# EAGLE library part OMAP3530 (library GTA04b7)
ARM Coretx Applications Processor Texas Instruments OMAP3530/25 600-MHz ARM Cortex-A8 Core
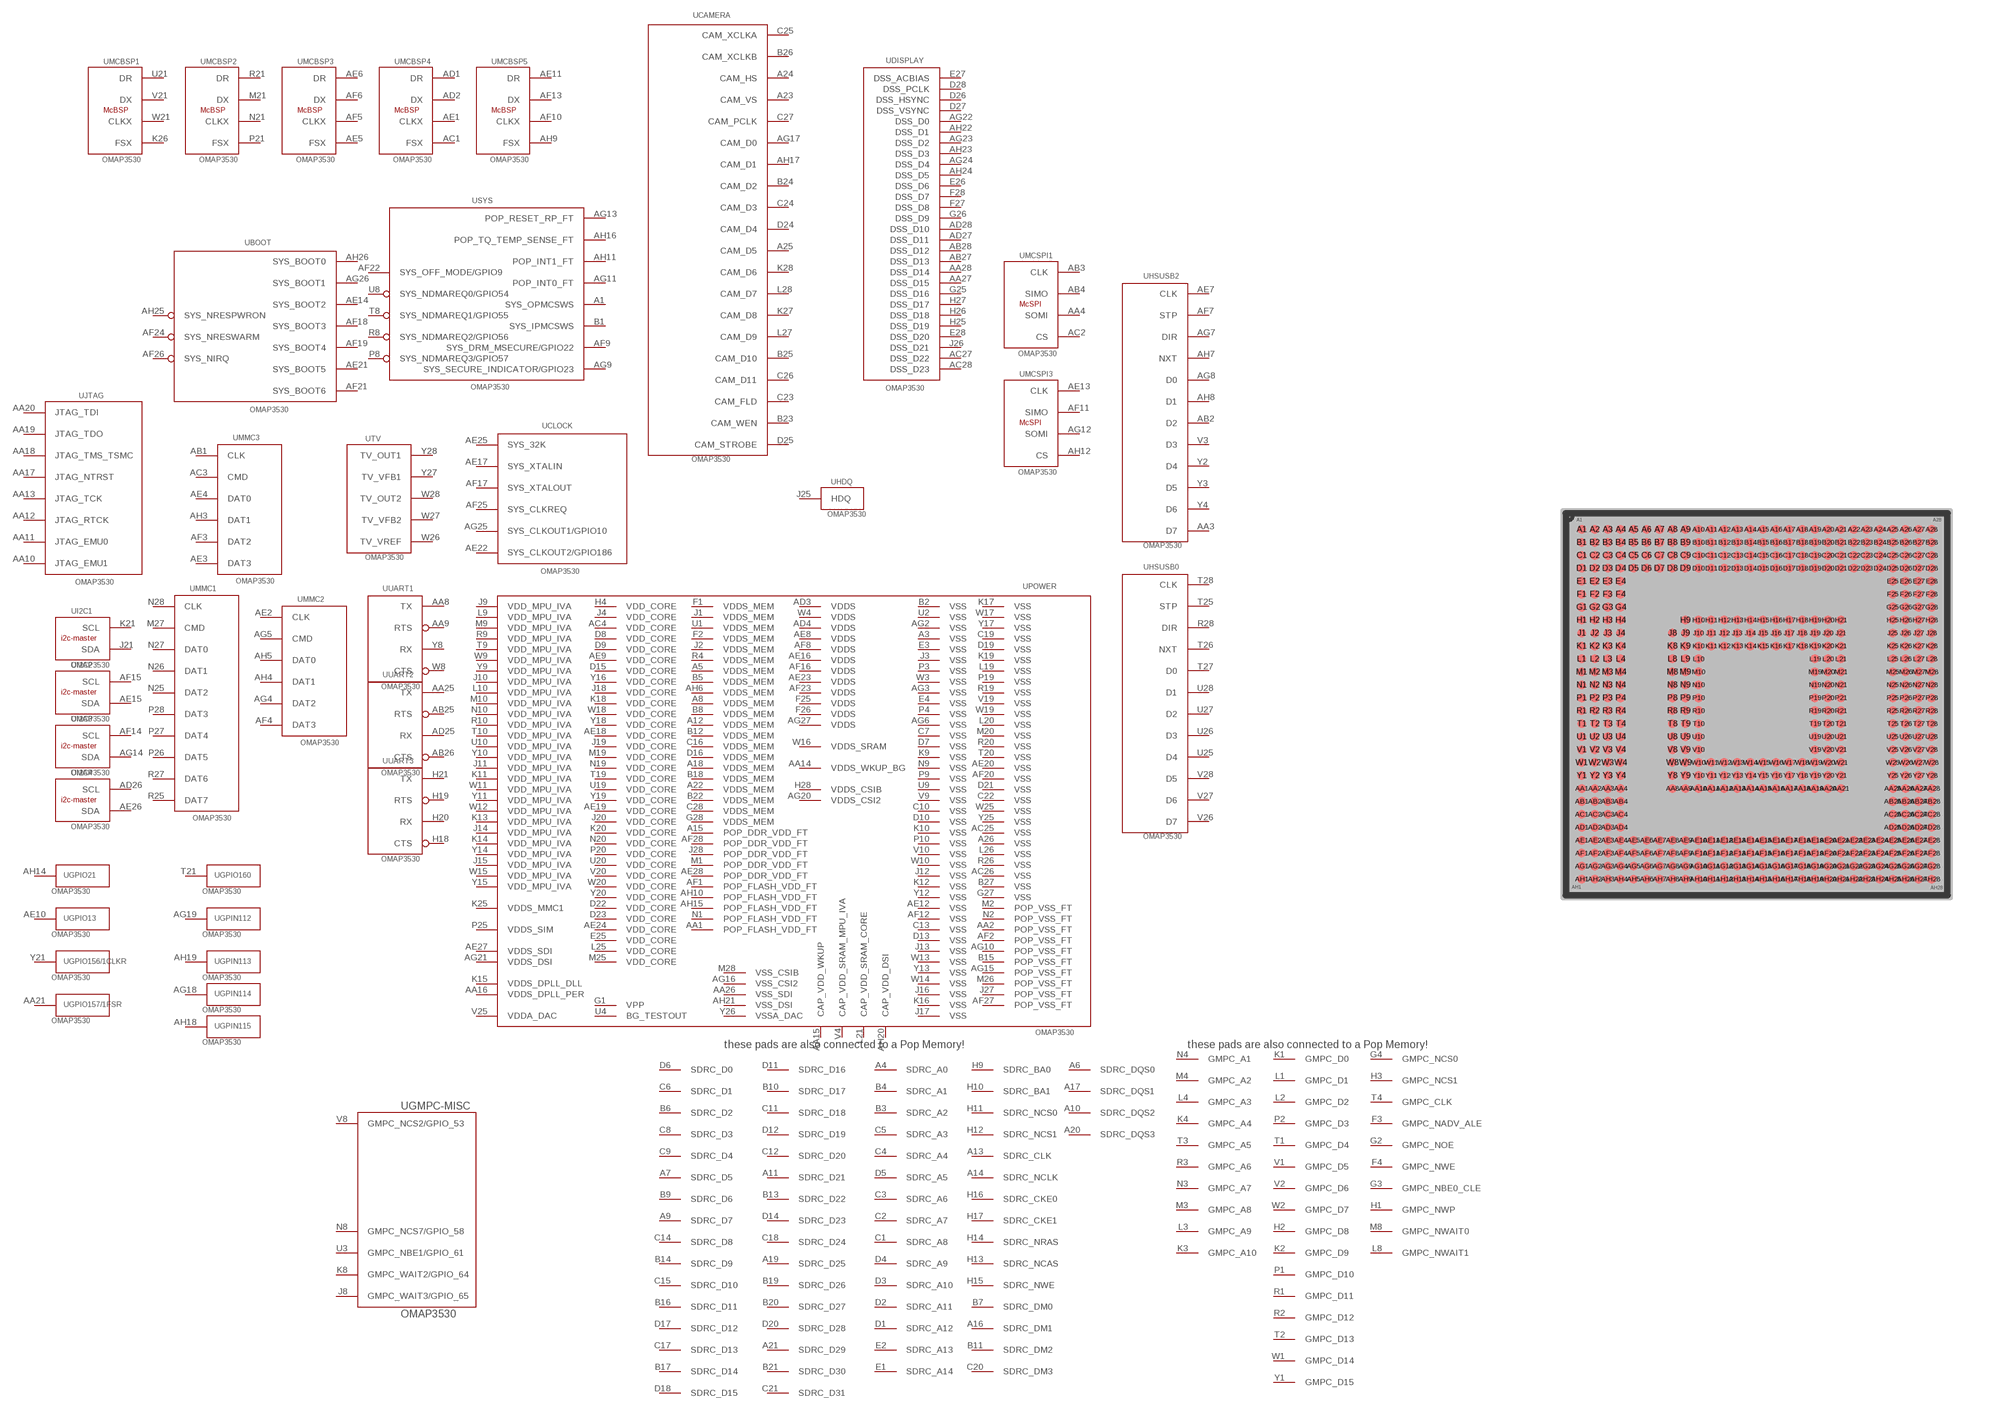
[diagram p32: symbol with the pads of PBGA784-N515-0.4; footprint PBGA784-N515-0.4]

Designator prefix -; gates BOOT=OMAP-BOOT CAMERA=OMAP-CAM CLOCK=OMAP-CLOCK DISPLAY=OMAP-DSS GMPC=OMAP-GPMC-POP GMPC-MISC=OMAP-GPMC GPIN112=IF-GPIN GPIN113=IF-GPIN GPIN114=IF-GPIN GPIN115=IF-GPIN GPIO13=IF-GPIO GPIO21=IF-GPIO GPIO156/1CLKR=IF-GPIO GPIO157/1FSR=IF-GPIO GPIO160=IF-GPIO HDQ=IF-HDQ HSUSB0=IF-HSUSB HSUSB2=IF-HSUSB I2C1=IF-I2C-MASTER I2C2=IF-I2C-MASTER I2C3=IF-I2C-MASTER I2C4=IF-I2C-MASTER JTAG=OMAP-JTAG MCBSP1=IF-MCBSP MCBSP2=IF-MCBSP MCBSP3=IF-MCBSP MCBSP4=IF-MCBSP MCBSP5=IF-MCBSP MCSPI1=IF-SPI-MASTER MCSPI3=IF-SPI-MASTER MMC1=IF-MMC8 MMC2=IF-MMC4 MMC3=IF-MMC4 POWER=OMAP-POWER SDRC=OMAP-SDRC-POP SYS=OMAP-MISC TV=OMAP-TV UART1=OMAP-UART UART2=OMAP-UART UART3=OMAP-UART

## OMAP3530DCBB (MICRO-VIA-OFF: 1:B2,1:N2,1:U2,2:Y2,1:AA2,2:AB2,2:AC2,2:AD2,1:AG2,1:J3,1:P3,2:V3,1:W3,3:Y3,2:AA3,3:AB3,1:AC3,2:AD3,1:AE3,2:AF3,2:AF5,2:AF6,1:AG6,3:AF7,3:AG7,1:P8,2:W8,1:Y8,3:AA8,2:AF8,1:AG8,1:W9,2:AA9,3:AF9,1:AA10,3:AF10,1:AG10,1:AA11,1:AA12,1:AF12,1:C13,2:AF13,2:AG13,1:AA14,3:AF14,2:AG14,1:B15,2:AA15,2:AF15,1:AG15,1:C16,1:AA16,1:AF16,1:B17,2:AA17,3:AG17,4:AA18,1:AF18,2:AG18,1:C19,1:H19,2:AA19,2:AF19,3:AG19,1:H20,1:AA20,2:AF20,1:AG20,2:H21,2:J21,1:L21,3:N21,2:P21,1:R21,3:T21,2:U21,1:V21,1:W21,2:Y21,2:AF21,2:AG21,1:C22,3:AF22,1:AG22,1:B23,2:C23,1:AF23,2:AG23,2:B24,2:C24,2:AF24,2:AG24,1:B25,3:C25,2:B26,2:C26,3:D26,2:E26,3:H26,1:J26,1:K26,1:L26,2:N26,2:R26,4:T26,7:U26,4:V26,2:W26,3:AB26,3:AD26,2:AE26,2:AF26,1:B27,1:C27,2:D27,1:G27,1:J27,1:K27,2:L27,1:M27,2:N27,3:T27,3:U27,3:V27,1:W27,1:Y27,2:AA27,2:AB27,3:AC27,2:AD27,2:AE27,1:AF27,1:AG27,1:K10,1:A18,1:K13,1:Y16,1:Y18,1:U10,1:AE25,1:K17,1:K19,2:AE17,1:D28,3:T28,1:R28,2:U28,2:U25,3:V28,1:Y4,1:AD28,1:AA25,3:AB25,3:AD25,2:AE10,3:AE4,2:AE5,2:D25,1:D24,2:AF1,1:W16,2:AA4,1:AC1,1:AH24,2:L28,3:T25,1:AH9,3:AE6,1:AD1,1:H25,1:A23,1:AH17,1:M21,1:A24,1:V25)  [PBGA784-N515-0.4]
A1  SYS:SYS_OPMCSWS  nc
A3  POWER:VSS  pwr
A4  SDRC:SDRC_A0  out
A5  POWER:VDDS_MEM  pwr
A6  SDRC:SDRC_DQS0  out
A7  SDRC:SDRC_D5
A8  POWER:VDDS_MEM  pwr
A9  SDRC:SDRC_D7
A10  SDRC:SDRC_DQS2  out
A11  SDRC:SDRC_D21
A12  POWER:VDDS_MEM  pwr
A13  SDRC:SDRC_CLK
A14  SDRC:SDRC_NCLK  out
A15  POWER:POP_DDR_VDD_FT  pwr
A16  SDRC:SDRC_DM1  out
A17  SDRC:SDRC_DQS1  out
A18  POWER:VDDS_MEM  pwr
A19  SDRC:SDRC_D25
A20  SDRC:SDRC_DQS3  out
A21  SDRC:SDRC_D29
A22  POWER:VDDS_MEM  pwr
A23  CAMERA:CAM_VS
A24  CAMERA:CAM_HS
A25  CAMERA:CAM_D5  in
A26  POWER:VSS  pwr
AA1  POWER:POP_FLASH_VDD_FT  pwr
AA2  POWER:POP_VSS_FT  pwr
AA3  HSUSB2:D7  out
AA4  MCSPI1:SOMI
AA8  UART1:TX  out
AA9  UART1:RTS  out
AA10  JTAG:JTAG_EMU1
AA11  JTAG:JTAG_EMU0
AA12  JTAG:JTAG_RTCK  out
AA13  JTAG:JTAG_TCK  in
AA14  POWER:VDDS_WKUP_BG  pwr
AA15  POWER:CAP_VDD_WKUP  pwr
AA16  POWER:VDDS_DPLL_PER  pwr
AA17  JTAG:JTAG_NTRST  in
AA18  JTAG:JTAG_TMS_TSMC
AA19  JTAG:JTAG_TDO  out
AA20  JTAG:JTAG_TDI  in
AA21  GPIO157/1FSR:GPIO
AA25  UART2:TX  out
AA26  POWER:VSS_SDI  pwr
AA27  DISPLAY:DSS_D15  out
AA28  DISPLAY:DSS_D14  out
AB1  MMC3:CLK  out
AB2  HSUSB2:D2  out
AB3  MCSPI1:CLK
AB4  MCSPI1:SIMO
AB25  UART2:RTS  out
AB26  UART2:CTS  in
AB27  DISPLAY:DSS_D13  out
AB28  DISPLAY:DSS_D12  out
AC1  MCBSP4:FSX
AC2  MCSPI1:CS
AC3  MMC3:CMD  out
AC4  POWER:VDD_CORE  pwr
AC25  POWER:VSS  pwr
AC26  POWER:VSS  pwr
AC27  DISPLAY:DSS_D22  out
AC28  DISPLAY:DSS_D23  out
AD1  MCBSP4:DR  in
AD2  MCBSP4:DX
AD3  POWER:VDDS  pwr
AD4  POWER:VDDS  pwr
AD25  UART2:RX  in
AD26  I2C4:SCL
AD27  DISPLAY:DSS_D11  out
AD28  DISPLAY:DSS_D10  out
AE1  MCBSP4:CLKX
AE2  MMC2:CLK  out
AE3  MMC3:DAT3
AE4  MMC3:DAT0
AE5  MCBSP3:FSX
AE6  MCBSP3:DR  in
AE7  HSUSB2:CLK  out
AE8  POWER:VDDS  pwr
AE9  POWER:VDD_CORE  pwr
AE10  GPIO13:GPIO
AE11  MCBSP5:DR  in
AE12  POWER:VSS  pwr
AE13  MCSPI3:CLK
AE14  BOOT:SYS_BOOT2  in
AE15  I2C2:SDA
AE16  POWER:VDDS  pwr
AE17  CLOCK:SYS_XTALIN  in
AE18  POWER:VDD_CORE  pwr
AE19  POWER:VDD_CORE  pwr
AE20  POWER:VSS  pwr
AE21  BOOT:SYS_BOOT5  in
AE22  CLOCK:SYS_CLKOUT2/GPIO186  out
AE23  POWER:VDDS  pwr
AE24  POWER:VDD_CORE  pwr
AE25  CLOCK:SYS_32K  in
AE26  I2C4:SDA
AE27  POWER:VDDS_SDI  pwr
AE28  POWER:POP_DDR_VDD_FT  pwr
AF1  POWER:POP_FLASH_VDD_FT  pwr
AF2  POWER:POP_VSS_FT  pwr
AF3  MMC3:DAT2
AF4  MMC2:DAT3
AF5  MCBSP3:CLKX
AF6  MCBSP3:DX
AF7  HSUSB2:STP  out
AF8  POWER:VDDS  pwr
AF9  SYS:SYS_DRM_MSECURE/GPIO22  out
AF10  MCBSP5:CLKX
AF11  MCSPI3:SIMO
AF12  POWER:VSS  pwr
AF13  MCBSP5:DX
AF14  I2C3:SCL
AF15  I2C2:SCL
AF16  POWER:VDDS  pwr
AF17  CLOCK:SYS_XTALOUT  out
AF18  BOOT:SYS_BOOT3  in
AF19  BOOT:SYS_BOOT4  in
AF20  POWER:VSS  pwr
AF21  BOOT:SYS_BOOT6  in
AF22  SYS:SYS_OFF_MODE/GPIO9  out
AF23  POWER:VDDS  pwr
AF24  BOOT:SYS_NRESWARM
AF25  CLOCK:SYS_CLKREQ
AF26  BOOT:SYS_NIRQ  in
AF27  POWER:POP_VSS_FT  pwr
AF28  POWER:POP_DDR_VDD_FT  pwr
AG2  POWER:VSS  pwr
AG3  POWER:VSS  pwr
AG4  MMC2:DAT2
AG5  MMC2:CMD  out
AG6  POWER:VSS  pwr
AG7  HSUSB2:DIR  in
AG8  HSUSB2:D0  out
AG9  SYS:SYS_SECURE_INDICATOR/GPIO23  out
AG10  POWER:POP_VSS_FT  pwr
AG11  SYS:POP_INT0_FT  out
AG12  MCSPI3:SOMI
AG13  SYS:POP_RESET_RP_FT
AG14  I2C3:SDA
AG15  POWER:POP_VSS_FT  pwr
AG16  POWER:VSS_CSI2  pwr
AG17  CAMERA:CAM_D0  in
AG18  GPIN114:GPIN  in
AG19  GPIN112:GPIN  in
AG20  POWER:VDDS_CSI2  pwr
AG21  POWER:VDDS_DSI  pwr
AG22  DISPLAY:DSS_D0  out
AG23  DISPLAY:DSS_D2  out
AG24  DISPLAY:DSS_D4  out
AG25  CLOCK:SYS_CLKOUT1/GPIO10  out
AG26  BOOT:SYS_BOOT1  in
AG27  POWER:VDDS  pwr
AH3  MMC3:DAT1
AH4  MMC2:DAT1
AH5  MMC2:DAT0
AH6  POWER:VDDS_MEM  pwr
AH7  HSUSB2:NXT  in
AH8  HSUSB2:D1  out
AH9  MCBSP5:FSX
AH10  POWER:POP_FLASH_VDD_FT  pwr
AH11  SYS:POP_INT1_FT  out
AH12  MCSPI3:CS
AH14  GPIO21:GPIO
AH15  POWER:POP_FLASH_VDD_FT  pwr
AH16  SYS:POP_TQ_TEMP_SENSE_FT
AH17  CAMERA:CAM_D1  in
AH18  GPIN115:GPIN  in
AH19  GPIN113:GPIN  in
AH20  POWER:CAP_VDD_DSI  pwr
AH21  POWER:VSS_DSI  pwr
AH22  DISPLAY:DSS_D1  out
AH23  DISPLAY:DSS_D3  out
AH24  DISPLAY:DSS_D5  out
AH25  BOOT:SYS_NRESPWRON  in
AH26  BOOT:SYS_BOOT0  in
B1  SYS:SYS_IPMCSWS  nc
B2  POWER:VSS  pwr
B3  SDRC:SDRC_A2  out
B4  SDRC:SDRC_A1  out
B5  POWER:VDDS_MEM  pwr
B6  SDRC:SDRC_D2
B7  SDRC:SDRC_DM0  out
B8  POWER:VDDS_MEM  pwr
B9  SDRC:SDRC_D6
B10  SDRC:SDRC_D17
B11  SDRC:SDRC_DM2  out
B12  POWER:VDDS_MEM  pwr
B13  SDRC:SDRC_D22
B14  SDRC:SDRC_D9
B15  POWER:POP_VSS_FT  pwr
B16  SDRC:SDRC_D11
B17  SDRC:SDRC_D14
B18  POWER:VDDS_MEM  pwr
B19  SDRC:SDRC_D26
B20  SDRC:SDRC_D27
B21  SDRC:SDRC_D30
B22  POWER:VDDS_MEM  pwr
B23  CAMERA:CAM_WEN
B24  CAMERA:CAM_D2  in
B25  CAMERA:CAM_D10  in
B26  CAMERA:CAM_XCLKB  out
B27  POWER:VSS  pwr
C1  SDRC:SDRC_A8  out
C2  SDRC:SDRC_A7  out
C3  SDRC:SDRC_A6  out
C4  SDRC:SDRC_A4  out
C5  SDRC:SDRC_A3  out
C6  SDRC:SDRC_D1
C7  POWER:VSS  pwr
C8  SDRC:SDRC_D3
C9  SDRC:SDRC_D4
C10  POWER:VSS  pwr
C11  SDRC:SDRC_D18
C12  SDRC:SDRC_D20
C13  POWER:VSS  pwr
C14  SDRC:SDRC_D8
C15  SDRC:SDRC_D10
C16  POWER:VDDS_MEM  pwr
C17  SDRC:SDRC_D13
C18  SDRC:SDRC_D24
C19  POWER:VSS  pwr
C20  SDRC:SDRC_DM3  out
C21  SDRC:SDRC_D31
C22  POWER:VSS  pwr
C23  CAMERA:CAM_FLD
C24  CAMERA:CAM_D3  in
C25  CAMERA:CAM_XCLKA  out
C26  CAMERA:CAM_D11  in
C27  CAMERA:CAM_PCLK
C28  POWER:VDDS_MEM  pwr
D1  SDRC:SDRC_A12  out
D2  SDRC:SDRC_A11  out
D3  SDRC:SDRC_A10  out
D4  SDRC:SDRC_A9  out
D5  SDRC:SDRC_A5  out
D6  SDRC:SDRC_D0
D7  POWER:VSS  pwr
D8  POWER:VDD_CORE  pwr
D9  POWER:VDD_CORE  pwr
D10  POWER:VSS  pwr
D11  SDRC:SDRC_D16
D12  SDRC:SDRC_D19
D13  POWER:VSS  pwr
D14  SDRC:SDRC_D23
D15  POWER:VDD_CORE  pwr
D16  POWER:VDDS_MEM  pwr
D17  SDRC:SDRC_D12
D18  SDRC:SDRC_D15
D19  POWER:VSS  pwr
D20  SDRC:SDRC_D28
D21  POWER:VSS  pwr
D22  POWER:VDD_CORE  pwr
D23  POWER:VDD_CORE  pwr
D24  CAMERA:CAM_D4  in
D25  CAMERA:CAM_STROBE
D26  DISPLAY:DSS_HSYNC  out
D27  DISPLAY:DSS_VSYNC  out
D28  DISPLAY:DSS_PCLK  out
E1  SDRC:SDRC_A14  out
E2  SDRC:SDRC_A13  out
E3  POWER:VSS  pwr
E4  POWER:VSS  pwr
E25  POWER:VDD_CORE  pwr
E26  DISPLAY:DSS_D6  out
E27  DISPLAY:DSS_ACBIAS  out
E28  DISPLAY:DSS_D20  out
F1  POWER:VDDS_MEM  pwr
F2  POWER:VDDS_MEM  pwr
F3  GMPC:GMPC_NADV_ALE  out
F4  GMPC:GMPC_NWE  out
F25  POWER:VDDS  pwr
F26  POWER:VDDS  pwr
F27  DISPLAY:DSS_D8  out
F28  DISPLAY:DSS_D7  out
G1  POWER:VPP  out
G2  GMPC:GMPC_NOE  out
G3  GMPC:GMPC_NBE0_CLE  out
G4  GMPC:GMPC_NCS0  out
G25  DISPLAY:DSS_D16  out
G26  DISPLAY:DSS_D9  out
G27  POWER:VSS  pwr
G28  POWER:VDDS_MEM  pwr
H1  GMPC:GMPC_NWP  out
H2  GMPC:GMPC_D8
H3  GMPC:GMPC_NCS1  out
H4  POWER:VDD_CORE  pwr
H9  SDRC:SDRC_BA0  out
H10  SDRC:SDRC_BA1  out
H11  SDRC:SDRC_NCS0  out
H12  SDRC:SDRC_NCS1  out
H13  SDRC:SDRC_NCAS  out
H14  SDRC:SDRC_NRAS  out
H15  SDRC:SDRC_NWE  out
H16  SDRC:SDRC_CKE0  out
H17  SDRC:SDRC_CKE1  out
H18  UART3:CTS  in
H19  UART3:RTS  out
H20  UART3:RX  in
H21  UART3:TX  out
H25  DISPLAY:DSS_D19  out
H26  DISPLAY:DSS_D18  out
H27  DISPLAY:DSS_D17  out
H28  POWER:VDDS_CSIB  pwr
J1  POWER:VDDS_MEM  pwr
J2  POWER:VDDS_MEM  pwr
J3  POWER:VSS  pwr
J4  POWER:VDD_CORE  pwr
J8  GMPC-MISC:GMPC_WAIT3/GPIO_65
J9  POWER:VDD_MPU_IVA  pwr
J10  POWER:VDD_MPU_IVA  pwr
J11  POWER:VDD_MPU_IVA  pwr
J12  POWER:VSS  pwr
J13  POWER:VSS  pwr
J14  POWER:VDD_MPU_IVA  pwr
J15  POWER:VDD_MPU_IVA  pwr
J16  POWER:VSS  pwr
J17  POWER:VSS  pwr
J18  POWER:VDD_CORE  pwr
J19  POWER:VDD_CORE  pwr
J20  POWER:VDD_CORE  pwr
J21  I2C1:SDA
J25  HDQ:HDQ
J26  DISPLAY:DSS_D21  out
J27  POWER:POP_VSS_FT  pwr
J28  POWER:POP_DDR_VDD_FT  pwr
K1  GMPC:GMPC_D0
K2  GMPC:GMPC_D9
K3  GMPC:GMPC_A10
K4  GMPC:GMPC_A4
K8  GMPC-MISC:GMPC_WAIT2/GPIO_64
K9  POWER:VSS  pwr
K10  POWER:VSS  pwr
K11  POWER:VDD_MPU_IVA  pwr
K12  POWER:VSS  pwr
K13  POWER:VDD_MPU_IVA  pwr
K14  POWER:VDD_MPU_IVA  pwr
K15  POWER:VDDS_DPLL_DLL  pwr
K16  POWER:VSS  pwr
K17  POWER:VSS  pwr
K18  POWER:VDD_CORE  pwr
K19  POWER:VSS  pwr
K20  POWER:VDD_CORE  pwr
K21  I2C1:SCL
K25  POWER:VDDS_MMC1  pwr
K26  MCBSP1:FSX
K27  CAMERA:CAM_D8  in
K28  CAMERA:CAM_D6  in
L1  GMPC:GMPC_D1
L2  GMPC:GMPC_D2
L3  GMPC:GMPC_A9
L4  GMPC:GMPC_A3
L8  GMPC:GMPC_NWAIT1  in
L9  POWER:VDD_MPU_IVA  pwr
L10  POWER:VDD_MPU_IVA  pwr
L19  POWER:VSS  pwr
L20  POWER:VSS  pwr
L21  POWER:CAP_VDD_SRAM_CORE  pwr
L25  POWER:VDD_CORE  pwr
L26  POWER:VSS  pwr
L27  CAMERA:CAM_D9  in
L28  CAMERA:CAM_D7  in
M1  POWER:POP_DDR_VDD_FT  pwr
M2  POWER:POP_VSS_FT  pwr
M3  GMPC:GMPC_A8
M4  GMPC:GMPC_A2
M8  GMPC:GMPC_NWAIT0  in
M9  POWER:VDD_MPU_IVA  pwr
M10  POWER:VDD_MPU_IVA  pwr
M19  POWER:VDD_CORE  pwr
M20  POWER:VSS  pwr
M21  MCBSP2:DX
M25  POWER:VDD_CORE  pwr
M26  POWER:POP_VSS_FT  pwr
M27  MMC1:CMD  out
M28  POWER:VSS_CSIB  pwr
N1  POWER:POP_FLASH_VDD_FT  pwr
N2  POWER:POP_VSS_FT  pwr
N3  GMPC:GMPC_A7
N4  GMPC:GMPC_A1
N8  GMPC-MISC:GMPC_NCS7/GPIO_58
N9  POWER:VSS  pwr
N10  POWER:VDD_MPU_IVA  pwr
N19  POWER:VDD_CORE  pwr
N20  POWER:VDD_CORE  pwr
N21  MCBSP2:CLKX
N25  MMC1:DAT2
N26  MMC1:DAT1
N27  MMC1:DAT0
N28  MMC1:CLK  out
P1  GMPC:GMPC_D10
P2  GMPC:GMPC_D3
P3  POWER:VSS  pwr
P4  POWER:VSS  pwr
P8  SYS:SYS_NDMAREQ3/GPIO57
P9  POWER:VSS  pwr
P10  POWER:VSS  pwr
P19  POWER:VSS  pwr
P20  POWER:VDD_CORE  pwr
P21  MCBSP2:FSX
P25  POWER:VDDS_SIM  pwr
P26  MMC1:DAT5
P27  MMC1:DAT4
P28  MMC1:DAT3
R1  GMPC:GMPC_D11
R2  GMPC:GMPC_D12
R3  GMPC:GMPC_A6
R4  POWER:VDDS_MEM  pwr
R8  SYS:SYS_NDMAREQ2/GPIO56
R9  POWER:VDD_MPU_IVA  pwr
R10  POWER:VDD_MPU_IVA  pwr
R19  POWER:VSS  pwr
R20  POWER:VSS  pwr
R21  MCBSP2:DR  in
R25  MMC1:DAT7
R26  POWER:VSS  pwr
R27  MMC1:DAT6
R28  HSUSB0:DIR  in
T1  GMPC:GMPC_D4
T2  GMPC:GMPC_D13
T3  GMPC:GMPC_A5
T4  GMPC:GMPC_CLK  out
T8  SYS:SYS_NDMAREQ1/GPIO55
T9  POWER:VDD_MPU_IVA  pwr
T10  POWER:VDD_MPU_IVA  pwr
T19  POWER:VDD_CORE  pwr
T20  POWER:VSS  pwr
T21  GPIO160:GPIO
T25  HSUSB0:STP  out
T26  HSUSB0:NXT  in
T27  HSUSB0:D0  out
T28  HSUSB0:CLK  out
U1  POWER:VDDS_MEM  pwr
U2  POWER:VSS  pwr
U3  GMPC-MISC:GMPC_NBE1/GPIO_61
U4  POWER:BG_TESTOUT  out
U8  SYS:SYS_NDMAREQ0/GPIO54
U9  POWER:VSS  pwr
U10  POWER:VDD_MPU_IVA  pwr
U19  POWER:VDD_CORE  pwr
U20  POWER:VDD_CORE  pwr
U21  MCBSP1:DR  in
U25  HSUSB0:D4  out
U26  HSUSB0:D3  out
U27  HSUSB0:D2  out
U28  HSUSB0:D1  out
V1  GMPC:GMPC_D5
V2  GMPC:GMPC_D6
V3  HSUSB2:D3  out
V4  POWER:CAP_VDD_SRAM_MPU_IVA  pwr
V8  GMPC-MISC:GMPC_NCS2/GPIO_53
V9  POWER:VSS  pwr
V10  POWER:VSS  pwr
V19  POWER:VSS  pwr
V20  POWER:VDD_CORE  pwr
V21  MCBSP1:DX
V25  POWER:VDDA_DAC  pwr
V26  HSUSB0:D7  out
V27  HSUSB0:D6  out
V28  HSUSB0:D5  out
W1  GMPC:GMPC_D14
W2  GMPC:GMPC_D7
W3  POWER:VSS  pwr
W4  POWER:VDDS  pwr
W8  UART1:CTS  in
W9  POWER:VDD_MPU_IVA  pwr
W10  POWER:VSS  pwr
W11  POWER:VDD_MPU_IVA  pwr
W12  POWER:VDD_MPU_IVA  pwr
W13  POWER:VSS  pwr
W14  POWER:VSS  pwr
W15  POWER:VDD_MPU_IVA  pwr
W16  POWER:VDDS_SRAM  pwr
W17  POWER:VSS  pwr
W18  POWER:VDD_CORE  pwr
W19  POWER:VSS  pwr
W20  POWER:VDD_CORE  pwr
W21  MCBSP1:CLKX
W25  POWER:VSS  pwr
W26  TV:TV_VREF  pas
W27  TV:TV_VFB2
W28  TV:TV_OUT2
Y1  GMPC:GMPC_D15
Y2  HSUSB2:D4  out
Y3  HSUSB2:D5  out
Y4  HSUSB2:D6  out
Y8  UART1:RX  in
Y9  POWER:VDD_MPU_IVA  pwr
Y10  POWER:VDD_MPU_IVA  pwr
Y11  POWER:VDD_MPU_IVA  pwr
Y12  POWER:VSS  pwr
Y13  POWER:VSS  pwr
Y14  POWER:VDD_MPU_IVA  pwr
Y15  POWER:VDD_MPU_IVA  pwr
Y16  POWER:VDD_CORE  pwr
Y17  POWER:VSS  pwr
Y18  POWER:VDD_CORE  pwr
Y19  POWER:VDD_CORE  pwr
Y20  POWER:VDD_CORE  pwr
Y21  GPIO156/1CLKR:GPIO
Y25  POWER:VSS  pwr
Y26  POWER:VSSA_DAC  pwr
Y27  TV:TV_VFB1
Y28  TV:TV_OUT1

## Footprint PBGA784-N515-0.4 (pad centres in mm)
CBB (S-PBGA-N515) Auto generated by make-symbol-device-package-bsdl.ulp Rev. 23 Source: sprm315.bsd
smd 0.275 x 0.275: A1 -5.4,5.4; A2 -5,5.4; A3 -4.6,5.4; A4 -4.2,5.4; A5 -3.8,5.4; A6 -3.4,5.4; A7 -3,5.4; A8 -2.6,5.4; A9 -2.2,5.4; A10 -1.8,5.4; A11 -1.4,5.4; A12 -1,5.4; A13 -0.6,5.4; A14 -0.2,5.4; A15 0.2,5.4; A16 0.6,5.4; A17 1,5.4; A18 1.4,5.4; A19 1.8,5.4; A20 2.2,5.4; A21 2.6,5.4; A22 3,5.4; A23 3.4,5.4; A24 3.8,5.4; A25 4.2,5.4; A26 4.6,5.4; A27 5,5.4; A28 5.4,5.4; AA1 -5.4,-2.6; AA2 -5,-2.6; AA3 -4.6,-2.6; AA4 -4.2,-2.6; AA8 -2.6,-2.6; AA9 -2.2,-2.6; AA10 -1.8,-2.6; AA11 -1.4,-2.6; AA12 -1,-2.6; AA13 -0.6,-2.6; AA14 -0.2,-2.6; AA15 0.2,-2.6; AA16 0.6,-2.6; AA17 1,-2.6; AA18 1.4,-2.6; AA19 1.8,-2.6; AA20 2.2,-2.6; AA21 2.6,-2.6; AA25 4.2,-2.6; AA26 4.6,-2.6; AA27 5,-2.6; AA28 5.4,-2.6; AB1 -5.4,-3; AB2 -5,-3; AB3 -4.6,-3; AB4 -4.2,-3; AB25 4.2,-3; AB26 4.6,-3; AB27 5,-3; AB28 5.4,-3; AC1 -5.4,-3.4; AC2 -5,-3.4; AC3 -4.6,-3.4; AC4 -4.2,-3.4; AC25 4.2,-3.4; AC26 4.6,-3.4; AC27 5,-3.4; AC28 5.4,-3.4; AD1 -5.4,-3.8; AD2 -5,-3.8; AD3 -4.6,-3.8; AD4 -4.2,-3.8; AD25 4.2,-3.8; AD26 4.6,-3.8; AD27 5,-3.8; AD28 5.4,-3.8; AE1 -5.4,-4.2; AE2 -5,-4.2; AE3 -4.6,-4.2; AE4 -4.2,-4.2; AE5 -3.8,-4.2; AE6 -3.4,-4.2; AE7 -3,-4.2; AE8 -2.6,-4.2; AE9 -2.2,-4.2; AE10 -1.8,-4.2; AE11 -1.4,-4.2; AE12 -1,-4.2; AE13 -0.6,-4.2; AE14 -0.2,-4.2; AE15 0.2,-4.2; AE16 0.6,-4.2; AE17 1,-4.2; AE18 1.4,-4.2; AE19 1.8,-4.2; AE20 2.2,-4.2; AE21 2.6,-4.2; AE22 3,-4.2; AE23 3.4,-4.2; AE24 3.8,-4.2; AE25 4.2,-4.2; AE26 4.6,-4.2; AE27 5,-4.2; AE28 5.4,-4.2; AF1 -5.4,-4.6; AF2 -5,-4.6; AF3 -4.6,-4.6; AF4 -4.2,-4.6; AF5 -3.8,-4.6; AF6 -3.4,-4.6; AF7 -3,-4.6; AF8 -2.6,-4.6; AF9 -2.2,-4.6; AF10 -1.8,-4.6; AF11 -1.4,-4.6; AF12 -1,-4.6; AF13 -0.6,-4.6; AF14 -0.2,-4.6; AF15 0.2,-4.6; AF16 0.6,-4.6; AF17 1,-4.6; AF18 1.4,-4.6; AF19 1.8,-4.6; AF20 2.2,-4.6; AF21 2.6,-4.6; AF22 3,-4.6; AF23 3.4,-4.6; AF24 3.8,-4.6; AF25 4.2,-4.6; AF26 4.6,-4.6; AF27 5,-4.6; AF28 5.4,-4.6; AG1 -5.4,-5; AG2 -5,-5; AG3 -4.6,-5; AG4 -4.2,-5; AG5 -3.8,-5; AG6 -3.4,-5; AG7 -3,-5; AG8 -2.6,-5; AG9 -2.2,-5; AG10 -1.8,-5; AG11 -1.4,-5; AG12 -1,-5; AG13 -0.6,-5; AG14 -0.2,-5; AG15 0.2,-5; AG16 0.6,-5; AG17 1,-5; AG18 1.4,-5; AG19 1.8,-5; AG20 2.2,-5; AG21 2.6,-5; AG22 3,-5; AG23 3.4,-5; AG24 3.8,-5; AG25 4.2,-5; AG26 4.6,-5; AG27 5,-5; AG28 5.4,-5; AH1 -5.4,-5.4; AH2 -5,-5.4; AH3 -4.6,-5.4; AH4 -4.2,-5.4; AH5 -3.8,-5.4; AH6 -3.4,-5.4; AH7 -3,-5.4; AH8 -2.6,-5.4; AH9 -2.2,-5.4; AH10 -1.8,-5.4; AH11 -1.4,-5.4; AH12 -1,-5.4; AH13 -0.6,-5.4; AH14 -0.2,-5.4; AH15 0.2,-5.4; AH16 0.6,-5.4; AH17 1,-5.4; AH18 1.4,-5.4; AH19 1.8,-5.4; AH20 2.2,-5.4; AH21 2.6,-5.4; AH22 3,-5.4; AH23 3.4,-5.4; AH24 3.8,-5.4; AH25 4.2,-5.4; AH26 4.6,-5.4; AH27 5,-5.4; AH28 5.4,-5.4; B1 -5.4,5; B2 -5,5; B3 -4.6,5; B4 -4.2,5; B5 -3.8,5; B6 -3.4,5; B7 -3,5; B8 -2.6,5; B9 -2.2,5; B10 -1.8,5; B11 -1.4,5; B12 -1,5; B13 -0.6,5; B14 -0.2,5; B15 0.2,5; B16 0.6,5; B17 1,5; B18 1.4,5; B19 1.8,5; B20 2.2,5; B21 2.6,5; B22 3,5; B23 3.4,5; B24 3.8,5; B25 4.2,5; B26 4.6,5; B27 5,5; B28 5.4,5; C1 -5.4,4.6; C2 -5,4.6; C3 -4.6,4.6; C4 -4.2,4.6; C5 -3.8,4.6; C6 -3.4,4.6; C7 -3,4.6; C8 -2.6,4.6; C9 -2.2,4.6; C10 -1.8,4.6; C11 -1.4,4.6; C12 -1,4.6; C13 -0.6,4.6; C14 -0.2,4.6; C15 0.2,4.6; C16 0.6,4.6; C17 1,4.6; C18 1.4,4.6; C19 1.8,4.6; C20 2.2,4.6; C21 2.6,4.6; C22 3,4.6; C23 3.4,4.6; C24 3.8,4.6; C25 4.2,4.6; C26 4.6,4.6; C27 5,4.6; C28 5.4,4.6; D1 -5.4,4.2; D2 -5,4.2; D3 -4.6,4.2; D4 -4.2,4.2; D5 -3.8,4.2; D6 -3.4,4.2; D7 -3,4.2; D8 -2.6,4.2; D9 -2.2,4.2; D10 -1.8,4.2; D11 -1.4,4.2; D12 -1,4.2; D13 -0.6,4.2; D14 -0.2,4.2; D15 0.2,4.2; D16 0.6,4.2; D17 1,4.2; D18 1.4,4.2; D19 1.8,4.2; D20 2.2,4.2; D21 2.6,4.2; D22 3,4.2; D23 3.4,4.2; D24 3.8,4.2; D25 4.2,4.2; D26 4.6,4.2; D27 5,4.2; D28 5.4,4.2; E1 -5.4,3.8; E2 -5,3.8; E3 -4.6,3.8; E4 -4.2,3.8; E25 4.2,3.8; E26 4.6,3.8; E27 5,3.8; E28 5.4,3.8; F1 -5.4,3.4; F2 -5,3.4; F3 -4.6,3.4; F4 -4.2,3.4; F25 4.2,3.4; F26 4.6,3.4; F27 5,3.4; F28 5.4,3.4; G1 -5.4,3; G2 -5,3; G3 -4.6,3; G4 -4.2,3; G25 4.2,3; G26 4.6,3; G27 5,3; G28 5.4,3; H1 -5.4,2.6; H2 -5,2.6; H3 -4.6,2.6; H4 -4.2,2.6; H9 -2.2,2.6; H10 -1.8,2.6; H11 -1.4,2.6; H12 -1,2.6; H13 -0.6,2.6; H14 -0.2,2.6; H15 0.2,2.6; H16 0.6,2.6; H17 1,2.6; H18 1.4,2.6; H19 1.8,2.6; H20 2.2,2.6; H21 2.6,2.6; H25 4.2,2.6; H26 4.6,2.6; H27 5,2.6; H28 5.4,2.6; J1 -5.4,2.2; J2 -5,2.2; J3 -4.6,2.2; J4 -4.2,2.2; J8 -2.6,2.2; J9 -2.2,2.2; J10 -1.8,2.2; J11 -1.4,2.2; J12 -1,2.2; J13 -0.6,2.2; J14 -0.2,2.2; J15 0.2,2.2; J16 0.6,2.2; J17 1,2.2; J18 1.4,2.2; J19 1.8,2.2; J20 2.2,2.2; J21 2.6,2.2; J25 4.2,2.2; J26 4.6,2.2; J27 5,2.2; J28 5.4,2.2; K1 -5.4,1.8; K2 -5,1.8; K3 -4.6,1.8; K4 -4.2,1.8; K8 -2.6,1.8; K9 -2.2,1.8; K10 -1.8,1.8; K11 -1.4,1.8; K12 -1,1.8; K13 -0.6,1.8; K14 -0.2,1.8; K15 0.2,1.8; K16 0.6,1.8; K17 1,1.8; K18 1.4,1.8; K19 1.8,1.8; K20 2.2,1.8; K21 2.6,1.8; K25 4.2,1.8; K26 4.6,1.8; K27 5,1.8; K28 5.4,1.8; L1 -5.4,1.4; L2 -5,1.4; L3 -4.6,1.4; L4 -4.2,1.4; L8 -2.6,1.4; L9 -2.2,1.4; L10 -1.8,1.4; L19 1.8,1.4; L20 2.2,1.4; L21 2.6,1.4; L25 4.2,1.4; L26 4.6,1.4; L27 5,1.4; L28 5.4,1.4; M1 -5.4,1; M2 -5,1; M3 -4.6,1; M4 -4.2,1; M8 -2.6,1; M9 -2.2,1; M10 -1.8,1; M19 1.8,1; M20 2.2,1; M21 2.6,1; M25 4.2,1; M26 4.6,1; M27 5,1; M28 5.4,1; N1 -5.4,0.6; N2 -5,0.6; N3 -4.6,0.6; N4 -4.2,0.6; N8 -2.6,0.6; N9 -2.2,0.6; N10 -1.8,0.6; N19 1.8,0.6; N20 2.2,0.6; N21 2.6,0.6; N25 4.2,0.6; N26 4.6,0.6; N27 5,0.6; N28 5.4,0.6; P1 -5.4,0.2; P2 -5,0.2; P3 -4.6,0.2; P4 -4.2,0.2; P8 -2.6,0.2; P9 -2.2,0.2; P10 -1.8,0.2; P19 1.8,0.2; P20 2.2,0.2; P21 2.6,0.2; P25 4.2,0.2; P26 4.6,0.2; P27 5,0.2; P28 5.4,0.2; R1 -5.4,-0.2; R2 -5,-0.2; R3 -4.6,-0.2; R4 -4.2,-0.2; R8 -2.6,-0.2; R9 -2.2,-0.2; R10 -1.8,-0.2; R19 1.8,-0.2; R20 2.2,-0.2; R21 2.6,-0.2; R25 4.2,-0.2; R26 4.6,-0.2; R27 5,-0.2; R28 5.4,-0.2; T1 -5.4,-0.6; T2 -5,-0.6; T3 -4.6,-0.6; T4 -4.2,-0.6; T8 -2.6,-0.6; T9 -2.2,-0.6; T10 -1.8,-0.6; T19 1.8,-0.6; T20 2.2,-0.6; T21 2.6,-0.6; T25 4.2,-0.6; T26 4.6,-0.6; T27 5,-0.6; T28 5.4,-0.6; U1 -5.4,-1; U2 -5,-1; U3 -4.6,-1; U4 -4.2,-1; U8 -2.6,-1; U9 -2.2,-1; U10 -1.8,-1; U19 1.8,-1; U20 2.2,-1; U21 2.6,-1; U25 4.2,-1; U26 4.6,-1; U27 5,-1; U28 5.4,-1; V1 -5.4,-1.4; V2 -5,-1.4; V3 -4.6,-1.4; V4 -4.2,-1.4; V8 -2.6,-1.4; V9 -2.2,-1.4; V10 -1.8,-1.4; V19 1.8,-1.4; V20 2.2,-1.4; V21 2.6,-1.4; V25 4.2,-1.4; V26 4.6,-1.4; V27 5,-1.4; V28 5.4,-1.4; W1 -5.4,-1.8; W2 -5,-1.8; W3 -4.6,-1.8; W4 -4.2,-1.8; W8 -2.6,-1.8; W9 -2.2,-1.8; W10 -1.8,-1.8; W11 -1.4,-1.8; W12 -1,-1.8; W13 -0.6,-1.8; W14 -0.2,-1.8; W15 0.2,-1.8; W16 0.6,-1.8; W17 1,-1.8; W18 1.4,-1.8; W19 1.8,-1.8; W20 2.2,-1.8; W21 2.6,-1.8; W25 4.2,-1.8; W26 4.6,-1.8; W27 5,-1.8; W28 5.4,-1.8; Y1 -5.4,-2.2; Y2 -5,-2.2; Y3 -4.6,-2.2; Y4 -4.2,-2.2; Y8 -2.6,-2.2; Y9 -2.2,-2.2; Y10 -1.8,-2.2; Y11 -1.4,-2.2; Y12 -1,-2.2; Y13 -0.6,-2.2; Y14 -0.2,-2.2; Y15 0.2,-2.2; Y16 0.6,-2.2; Y17 1,-2.2; Y18 1.4,-2.2; Y19 1.8,-2.2; Y20 2.2,-2.2; Y21 2.6,-2.2; Y25 4.2,-2.2; Y26 4.6,-2.2; Y27 5,-2.2; Y28 5.4,-2.2